# EAGLE library part CVCO55CC-2380-2580 (library radar)
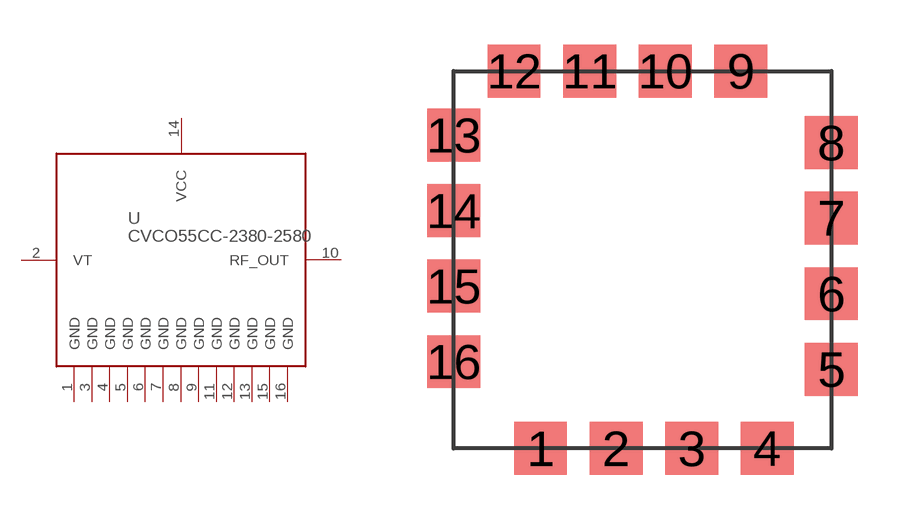
[diagram p1: symbol with the pads of CVCO55CC-2380-2580; footprint CVCO55CC-2380-2580]

Designator prefix -

## CVCO55CC-2380-2580  [CVCO55CC-2380-2580]
1  GND
2  VT
3  GND
4  GND
5  GND
6  GND
7  GND
8  GND
9  GND
10  RF_OUT
11  GND
12  GND
13  GND
14  VCC
15  GND
16  GND

## Footprint CVCO55CC-2380-2580 (pad centres in mm)
smd 1.778 x 1.778: 1 2.921,0; 2 5.461,0; 3 8.001,0; 4 10.541,0; 5 12.7,2.667; 6 12.7,5.207; 7 12.7,7.747; 8 12.7,10.287; 9 9.652,12.7; 10 7.112,12.7; 11 4.572,12.7; 12 2.032,12.7; 13 0,10.541; 14 0,8.001; 15 0,5.461; 16 0,2.921